# Altium footprint library IND_BOURNS.PcbLib: 4 footprints
Each footprint in its own frame and in the unit in brackets; x right, y up, seen from the top. Pads: shape width x height; smd on the part's side, far side on the other; paste and mask are expansions set on the pad; w line width, h text height; cw(c..) or ccw(c..) is an arc to the next point about the centre after c.
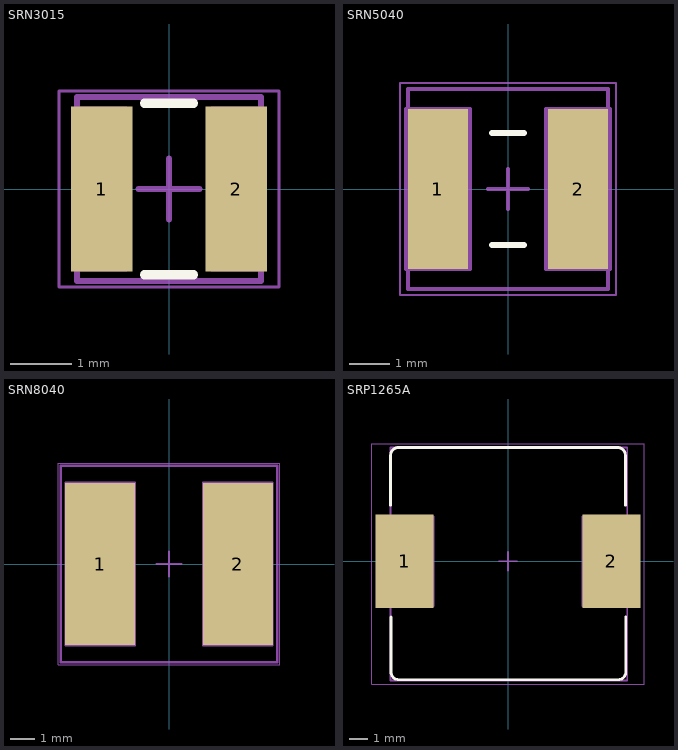
[diagram p0: the footprints below, top view; thin cyan lines are the x and y axes]

## SRN3015 [mm] "Semi-shielded Power Inductors"
pads (2):
  rect 1x2.7 smd: 1(-1.1,0) 2(1.1,0)
Top Overlay:
  lines w0.15: -0.4,-1.4 0.4,-1.4 ; -0.4,1.4 0.4,1.4
Mechanical 14:
  lines w0.1: -1.5,-1.5 1.5,-1.5 1.5,1.5 -1.5,1.5 -1.5,-1.5 ; -1.5,-1.3 -1.5,1.3 -0.7,1.3 -0.7,-1.3 -1.5,-1.3 ; 0.7,-1.3 1.5,-1.3 1.5,1.3 0.7,1.3 0.7,-1.3
  text ".Designator" at -0.5,-0.3 h0.6
Mechanical 15:
  lines w0.05: -1.8,-1.6 -1.8,1.6 1.8,1.6 1.8,-1.6 -1.8,-1.6
  lines w0.1: -0.5,0 0.5,0 ; 0,-0.5 0,0.5
3D body "TayoYuden-nr3015.step": height 1.47, standoff -0.02, extent -1.5,-1.5 1.5,1.5

## SRN5040 [mm] "Semi-shielded Power Inductors"
pads (2):
  rect 1.5x4 smd: 1(-1.75,0) 2(1.75,0)
Top Overlay:
  lines w0.15: -0.4,-1.4 0.4,-1.4 ; -0.4,1.4 0.4,1.4
Mechanical 14:
  lines w0.1: -2.55,-2 -2.55,2 -0.95,2 -0.95,-2 -2.55,-2 ; -2.5,-2.5 2.5,-2.5 2.5,2.5 -2.5,2.5 -2.5,-2.5 ; 0.95,-2 2.55,-2 2.55,2 0.95,2 0.95,-2
  text ".Designator" at -0.5,-0.3 h0.75
Mechanical 15:
  lines w0.05: -2.7,-2.65 -2.7,2.65 2.7,2.65 2.7,-2.65 -2.7,-2.65
  lines w0.1: -0.5,0 0.5,0 ; 0,-0.5 0,0.5
3D body "SRN5040 series.stp": height 3.45, standoff 0.01, extent -2.5,-2.51 2.502,2.51

## SRN8040 [mm] "Semi-shielded Power Inductors"
pads (2):
  rect 2.85x6.6 smd: 1(-2.8,0) 2(2.8,0)
Mechanical 14:
  lines w0.1: -4.4,-4 -4.4,4 4.4,4 4.4,-4 -4.4,-4 ; -4.2,-3.3 -1.4,-3.3 -1.4,3.3 -4.2,3.3 -4.2,-3.3 ; 1.4,-3.3 1.4,3.3 4.2,3.3 4.2,-3.3 1.4,-3.3
  text ".Designator" at -0.5,-0.3 h0.75
Mechanical 15:
  lines w0.05: -4.5,-4.1 4.5,-4.1 4.5,4.1 -4.5,4.1 -4.5,-4.1
  lines w0.1: -0.5,0 0.5,0 ; 0,-0.5 0,0.5
3D body: height 4.2, standoff 0.05, extent -0.1,-3.9 4.3,0.1
3D body: height 4.2, standoff 0.05, extent -0.1,-0.1 4.3,3.9
3D body: height 4.2, standoff 0.05, extent -4.3,-0.1 0.1,3.9
3D body: height 4.2, standoff 0.05, extent -4.3,-3.9 0.1,0.1

## SRP1265A [mm]
pads (2):
  rect 3.1x5 smd: 1(-5.55,0) 2(5.55,0)
Top Overlay:
  lines w0.15: -6.3,3 -6.3,5.688 cw(c-5.888,5.688) -5.888,6.1 5.89,6.1 ; -6.278,-3 -6.278,-5.947 ccw(c-5.866,-5.947) -5.866,-6.359 5.913,-6.359 ; 5.89,6.101 cw(c5.89,5.689) 6.302,5.689 6.302,3.001 ; 5.913,-6.36 ccw(c5.913,-5.948) 6.324,-5.948 6.324,-3
Mechanical 14:
  lines w0.1: -6.6,-2.4 -4,-2.4 -4,2.4 -6.6,2.4 -6.6,-2.4 ; -6.3,-6.4 -6.3,6.1 6.4,6.1 6.4,-6.4 -6.3,-6.4 ; 4,-2.4 4,2.4 6.7,2.4 6.7,-2.4 4,-2.4
  text ".Designator" at -0.5,-0.3 h0.75
Mechanical 15:
  lines w0.05: -7.3,-6.6 7.3,-6.6 7.3,6.3 -7.3,6.3 -7.3,-6.6
  lines w0.1: -0.5,0 0.5,0 ; 0,-0.5 0,0.5
3D body "SRP1265A.stp": height 6.41, standoff 0.1, extent -6.4,-6.4 6.5,6.1